# EAGLE library part TXB0102 (library poi)
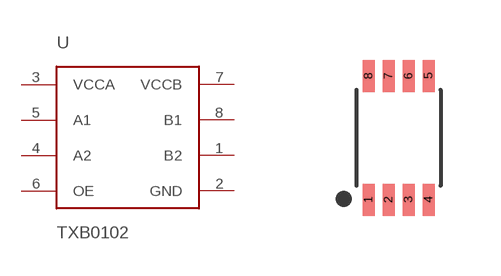
[diagram p4: symbol with the pads of VSSOP-8; footprint VSSOP-8]

Designator prefix -

## TXB0102 (MF: TEXAS INSTRUMENTS; MPN: TXB0102DCUR; OC_FARNELL: 2295723)  [VSSOP-8]
1  B2
2  GND  pwr
3  VCCA  pwr
4  A2
5  A1
6  OE  in
7  VCCB  pwr
8  B1

## Footprint VSSOP-8 (pad centres in mm)
smd 0.3 x 0.8: 1 -0.75,-1.55; 2 -0.25,-1.55; 3 0.25,-1.55; 4 0.75,-1.55; 5 0.75,1.55; 6 0.25,1.55; 7 -0.25,1.55; 8 -0.75,1.55